# EAGLE library part ADAFRUIT_BLUEFRUIT-LE (library dhgoldberg)
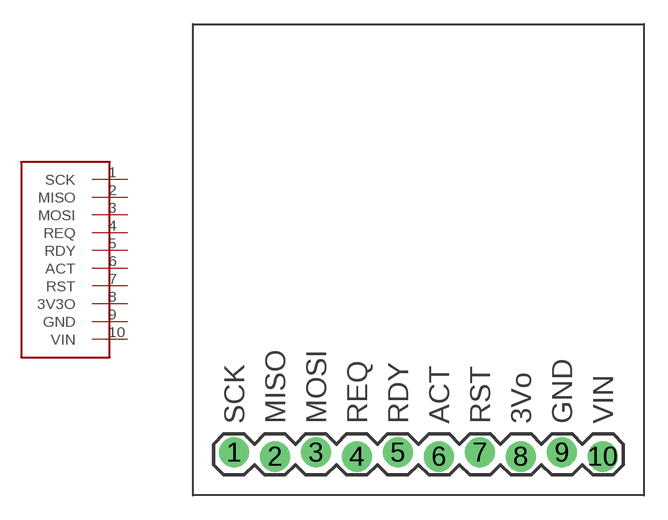
[diagram p0: symbol with the pads of BFLE-LOCK; footprint BFLE-LOCK]

Designator prefix -

## ADAFRUIT_BLUEFRUIT-LE  [BFLE-LOCK]
1  SCK
2  MISO
3  MOSI
4  REQ
5  RDY
6  ACT
7  RST
8  3V3O
9  GND
10  VIN

## Footprint BFLE-LOCK (pad centres in mm)
drill 1.016 pad 1.88: 1 0,0.127; 2 2.54,-0.127; 3 5.08,0.127; 4 7.62,-0.127; 5 10.16,0.127; 6 12.7,-0.127; 7 15.24,0.127; 8 17.78,-0.127; 9 20.32,0.127; 10 22.86,-0.127